# Altium footprint library SOD128.PcbLib: 1 footprints
Each footprint in its own frame and in the unit in brackets; x right, y up, seen from the top. Pads: shape width x height; smd on the part's side, far side on the other; paste and mask are expansions set on the pad; w line width, h text height; cw(c..) or ccw(c..) is an arc to the next point about the centre after c.
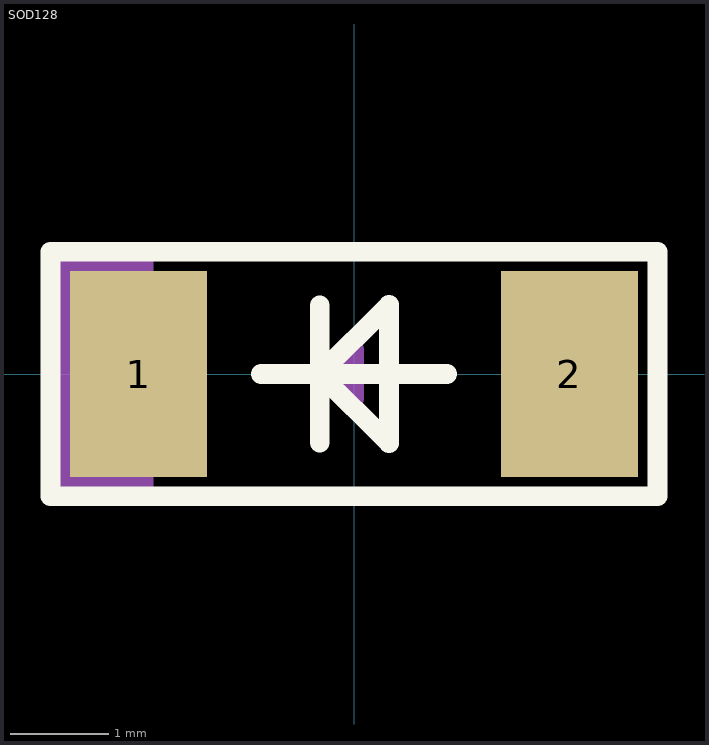
[diagram p0: the footprint, top view; thin cyan lines are the x and y axes]

## SOD128 [mm]
height 0.9
pads (2):
  rect 1.4x2.1 smd: 1(-2.2,0) 2(2.2,0)
Top Overlay:
  lines w0.2: -0.95,0 -0.35,0 ; -0.35,-0.7 -0.35,0 ; -0.35,0.7 -0.35,0 ; 0.95,0 -0.35,0 ; -0.35,0 0.357,0.707 0.357,-0.707 -0.35,0 ; -3.1,-1.25 3.1,-1.25 3.1,1.25 -3.1,1.25 -3.1,-1.25
Top Assembly:
  rectangle: -3.1,-1.25 -2.05,1.25
  lines w0.1: -3.1,-1.25 3.1,-1.25 3.1,1.25 -3.1,1.25 -3.1,-1.25
  lines w0.2: -0.25,0 0.25,0 ; 0,-0.25 0,0.25
  text "'.Designator'" at -3.965,-0.292 h0.7
3D body "User Library-SOD128.step": height 1.1, standoff -0.01, extent -2.5,-1.35 2.5,1.35